# EAGLE library part DMG-SW (library Game_Boy)
DMG Power Switch Pins 1 and 2 are only connected when the power is ON, pins 3 and 4 are only connected when the power is OFF.
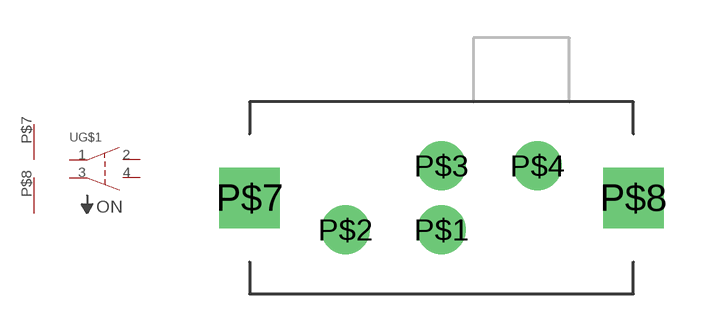
[diagram p1: symbol with the pads of DMG-SWITCH; footprint DMG-SWITCH]

Designator prefix -; gates G$1=DMG-SW G$2=PWRGND G$3=PWRGND

## DMG-SW  [DMG-SWITCH]
P$1  G$1:1
P$2  G$1:2
P$3  G$1:3
P$4  G$1:4
P$7  G$2:GND  pwr
P$8  G$3:GND  pwr

## Footprint DMG-SWITCH (pad centres in mm)
drill 0.8 pad 1.93: P$1 0,-1.27; P$2 -3.81,-1.27; P$3 0,1.27; P$4 3.81,1.27
drill 1.6 square: P$7 -7.62,0; P$8 7.62,0